# Altium footprint library National Semiconductor Footprints.PcbLib: 194 footprints (part 12 of 13)
Each footprint in its own frame and in the unit in brackets; x right, y up, seen from the top. Pads: shape width x height; smd on the part's side, far side on the other; paste and mask are expansions set on the pad; w line width, h text height; cw(c..) or ccw(c..) is an arc to the next point about the centre after c.
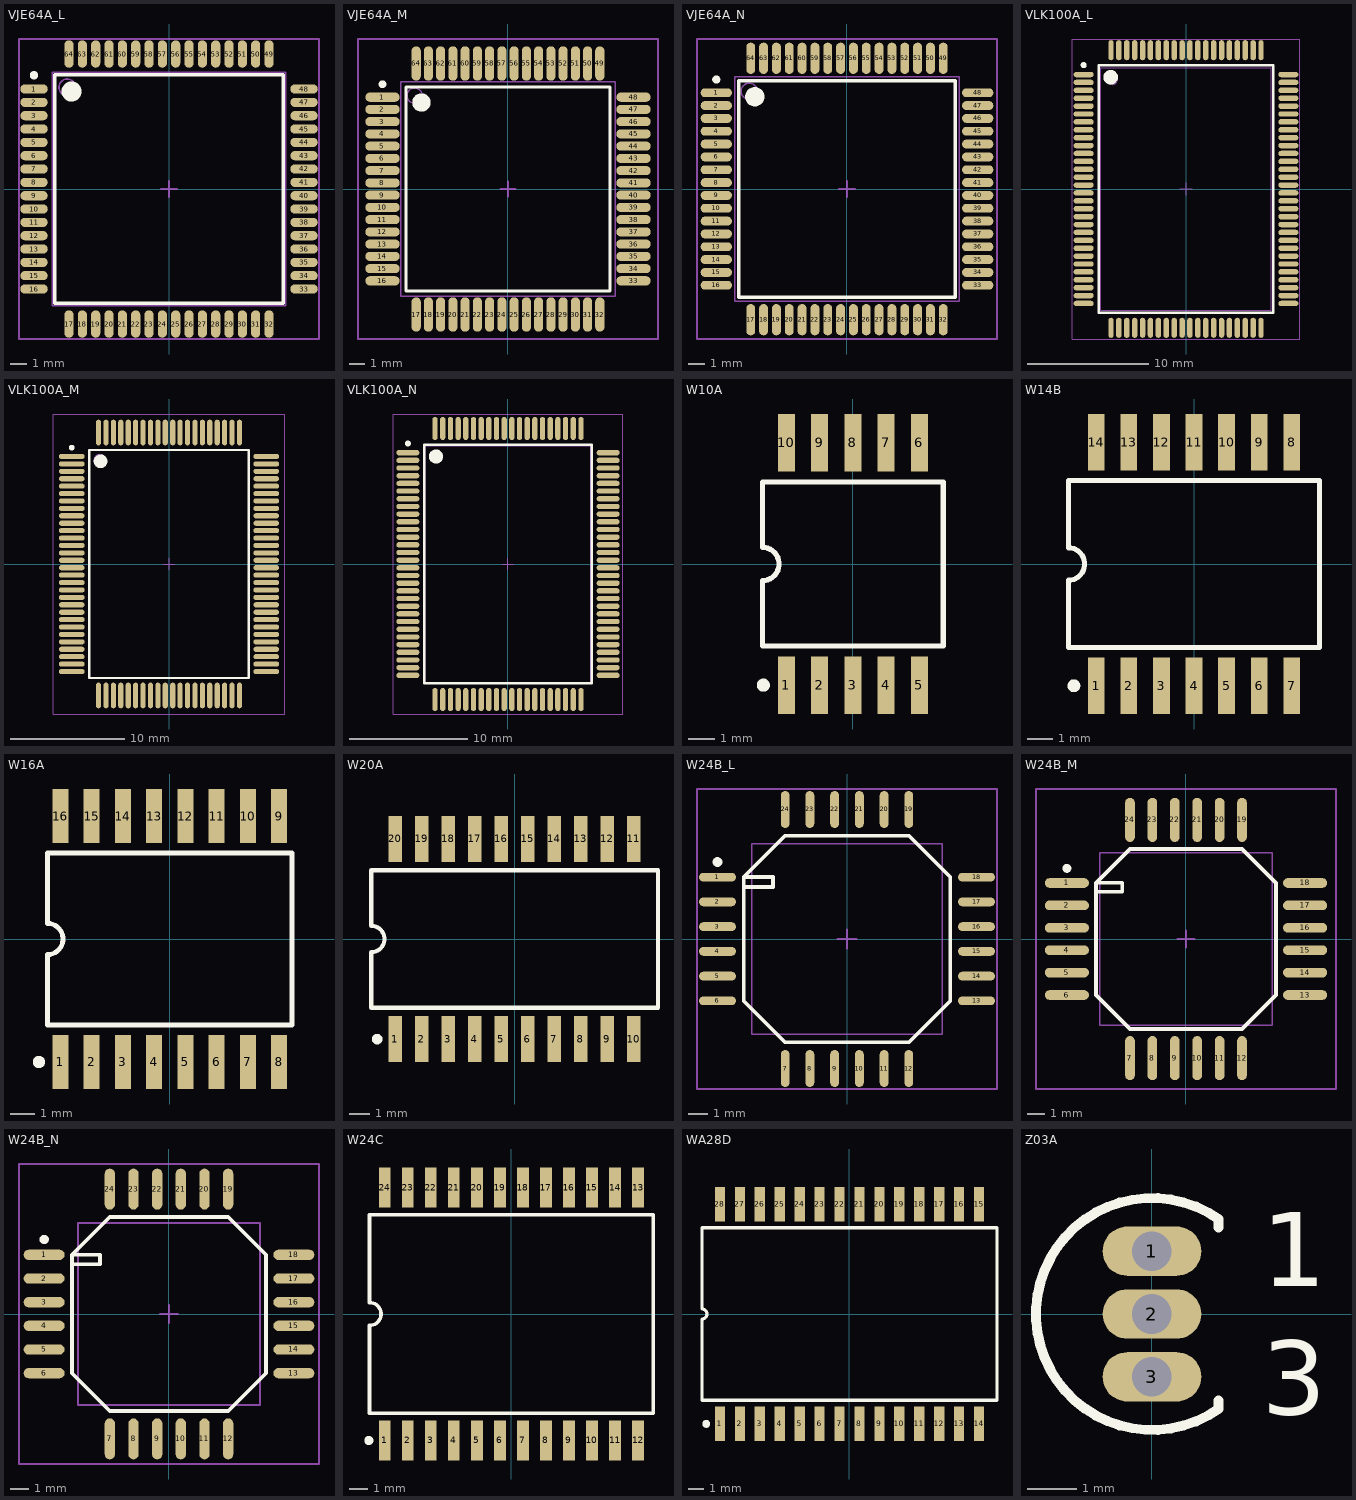
[diagram p11: the footprints below, top view; thin cyan lines are the x and y axes]

## VJE64A_L [mm] "64-Pin Quad Flat Pack 0.8 mm Pitch, IPC High Density"
height 2.45
pads (64):
  oval 1.65x0.55 smd: 1(-8.1,6) 2(-8.1,5.2) 3(-8.1,4.4) 4(-8.1,3.6) 5(-8.1,2.8) 6(-8.1,2) 7(-8.1,1.2) 8(-8.1,0.4) 9(-8.1,-0.4) 10(-8.1,-1.2) 11(-8.1,-2) 12(-8.1,-2.8) 13(-8.1,-3.6) 14(-8.1,-4.4) 15(-8.1,-5.2) 16(-8.1,-6) 33(8.1,-6) 34(8.1,-5.2) 35(8.1,-4.4) 36(8.1,-3.6) 37(8.1,-2.8) 38(8.1,-2) 39(8.1,-1.2) 40(8.1,-0.4) 41(8.1,0.4) 42(8.1,1.2) 43(8.1,2) 44(8.1,2.8) 45(8.1,3.6) 46(8.1,4.4) 47(8.1,5.2) 48(8.1,6)
  oval 0.55x1.65 smd: 17(-6,-8.1) 18(-5.2,-8.1) 19(-4.4,-8.1) 20(-3.6,-8.1) 21(-2.8,-8.1) 22(-2,-8.1) 23(-1.2,-8.1) 24(-0.4,-8.1) 25(0.4,-8.1) 26(1.2,-8.1) 27(2,-8.1) 28(2.8,-8.1) 29(3.6,-8.1) 30(4.4,-8.1) 31(5.2,-8.1) 32(6,-8.1) 49(6,8.1) 50(5.2,8.1) 51(4.4,8.1) 52(3.6,8.1) 53(2.8,8.1) 54(2,8.1) 55(1.2,8.1) 56(0.4,8.1) 57(-0.4,8.1) 58(-1.2,8.1) 59(-2,8.1) 60(-2.8,8.1) 61(-3.6,8.1) 62(-4.4,8.1) 63(-5.2,8.1) 64(-6,8.1)
Top Overlay:
  circle w0.6: c-5.85,5.85 r0.3
  circle w0.25: c-8.1,6.825 r0.125
  lines w0.2: -6.85,-6.85 6.85,-6.85 6.85,6.85 -6.85,6.85 -6.85,-6.85
Mechanical 13:
  circle w0.1: c-6.1,6.1 r0.5
  lines w0.1: -7,-7 7,-7 7,7 -7,7 -7,-7
Mechanical 15:
  lines w0.1: -0.5,0 0.5,0 ; 0,-0.5 0,0.5 ; -9,-9 9,-9 9,9 -9,9 -9,-9
3D body: height 2.45, standoff 0, extent -7,-7 7,7

## VJE64A_M [mm] "64-Pin Quad Flat Pack 0.8 mm Pitch, IPC Low Density"
height 2.45
pads (64):
  oval 2.25x0.6 smd: 1(-8.2,6) 2(-8.2,5.2) 3(-8.2,4.4) 4(-8.2,3.6) 5(-8.2,2.8) 6(-8.2,2) 7(-8.2,1.2) 8(-8.2,0.4) 9(-8.2,-0.4) 10(-8.2,-1.2) 11(-8.2,-2) 12(-8.2,-2.8) 13(-8.2,-3.6) 14(-8.2,-4.4) 15(-8.2,-5.2) 16(-8.2,-6) 33(8.2,-6) 34(8.2,-5.2) 35(8.2,-4.4) 36(8.2,-3.6) 37(8.2,-2.8) 38(8.2,-2) 39(8.2,-1.2) 40(8.2,-0.4) 41(8.2,0.4) 42(8.2,1.2) 43(8.2,2) 44(8.2,2.8) 45(8.2,3.6) 46(8.2,4.4) 47(8.2,5.2) 48(8.2,6)
  oval 0.6x2.25 smd: 17(-6,-8.2) 18(-5.2,-8.2) 19(-4.4,-8.2) 20(-3.6,-8.2) 21(-2.8,-8.2) 22(-2,-8.2) 23(-1.2,-8.2) 24(-0.4,-8.2) 25(0.4,-8.2) 26(1.2,-8.2) 27(2,-8.2) 28(2.8,-8.2) 29(3.6,-8.2) 30(4.4,-8.2) 31(5.2,-8.2) 32(6,-8.2) 49(6,8.2) 50(5.2,8.2) 51(4.4,8.2) 52(3.6,8.2) 53(2.8,8.2) 54(2,8.2) 55(1.2,8.2) 56(0.4,8.2) 57(-0.4,8.2) 58(-1.2,8.2) 59(-2,8.2) 60(-2.8,8.2) 61(-3.6,8.2) 62(-4.4,8.2) 63(-5.2,8.2) 64(-6,8.2)
Top Overlay:
  circle w0.6: c-5.65,5.65 r0.3
  circle w0.25: c-8.2,6.85 r0.125
  lines w0.2: -6.65,-6.65 6.65,-6.65 6.65,6.65 -6.65,6.65 -6.65,-6.65
Mechanical 13:
  circle w0.1: c-6.1,6.1 r0.5
  lines w0.1: -7,-7 7,-7 7,7 -7,7 -7,-7
Mechanical 15:
  lines w0.1: -0.5,0 0.5,0 ; 0,-0.5 0,0.5 ; -9.8,-9.8 9.8,-9.8 9.8,9.8 -9.8,9.8 -9.8,-9.8
3D body: height 2.45, standoff 0, extent -7,-7 7,7

## VJE64A_N [mm] "64-Pin Quad Flat Pack 0.8 mm Pitch, IPC Medium Density"
height 2.45
pads (64):
  oval 1.95x0.55 smd: 1(-8.15,6) 2(-8.15,5.2) 3(-8.15,4.4) 4(-8.15,3.6) 5(-8.15,2.8) 6(-8.15,2) 7(-8.15,1.2) 8(-8.15,0.4) 9(-8.15,-0.4) 10(-8.15,-1.2) 11(-8.15,-2) 12(-8.15,-2.8) 13(-8.15,-3.6) 14(-8.15,-4.4) 15(-8.15,-5.2) 16(-8.15,-6) 33(8.15,-6) 34(8.15,-5.2) 35(8.15,-4.4) 36(8.15,-3.6) 37(8.15,-2.8) 38(8.15,-2) 39(8.15,-1.2) 40(8.15,-0.4) 41(8.15,0.4) 42(8.15,1.2) 43(8.15,2) 44(8.15,2.8) 45(8.15,3.6) 46(8.15,4.4) 47(8.15,5.2) 48(8.15,6)
  oval 0.55x1.95 smd: 17(-6,-8.15) 18(-5.2,-8.15) 19(-4.4,-8.15) 20(-3.6,-8.15) 21(-2.8,-8.15) 22(-2,-8.15) 23(-1.2,-8.15) 24(-0.4,-8.15) 25(0.4,-8.15) 26(1.2,-8.15) 27(2,-8.15) 28(2.8,-8.15) 29(3.6,-8.15) 30(4.4,-8.15) 31(5.2,-8.15) 32(6,-8.15) 49(6,8.15) 50(5.2,8.15) 51(4.4,8.15) 52(3.6,8.15) 53(2.8,8.15) 54(2,8.15) 55(1.2,8.15) 56(0.4,8.15) 57(-0.4,8.15) 58(-1.2,8.15) 59(-2,8.15) 60(-2.8,8.15) 61(-3.6,8.15) 62(-4.4,8.15) 63(-5.2,8.15) 64(-6,8.15)
Top Overlay:
  circle w0.6: c-5.75,5.75 r0.3
  circle w0.25: c-8.15,6.825 r0.125
  lines w0.2: -6.75,-6.75 6.75,-6.75 6.75,6.75 -6.75,6.75 -6.75,-6.75
Mechanical 13:
  circle w0.1: c-6.1,6.1 r0.5
  lines w0.1: -7,-7 7,-7 7,7 -7,7 -7,-7
Mechanical 15:
  lines w0.1: -0.5,0 0.5,0 ; 0,-0.5 0,0.5 ; -9.35,-9.35 9.35,-9.35 9.35,9.35 -9.35,9.35 -9.35,-9.35
3D body: height 2.45, standoff 0, extent -7,-7 7,7

## VLK100A_L [mm] "100-Pin Quad Flat Pack Rectangular 0.65 mm Pitch, IPC High Density"
height 3
pads (100):
  oval 1.65x0.45 smd: 1(-8.425,9.425) 2(-8.425,8.775) 3(-8.425,8.125) 4(-8.425,7.475) 5(-8.425,6.825) 6(-8.425,6.175) 7(-8.425,5.525) 8(-8.425,4.875) 9(-8.425,4.225) 10(-8.425,3.575) 11(-8.425,2.925) 12(-8.425,2.275) 13(-8.425,1.625) 14(-8.425,0.975) 15(-8.425,0.325) 16(-8.425,-0.325) 17(-8.425,-0.975) 18(-8.425,-1.625) 19(-8.425,-2.275) 20(-8.425,-2.925) 21(-8.425,-3.575) 22(-8.425,-4.225) 23(-8.425,-4.875) 24(-8.425,-5.525) 25(-8.425,-6.175) 26(-8.425,-6.825) 27(-8.425,-7.475) 28(-8.425,-8.125) 29(-8.425,-8.775) 30(-8.425,-9.425) 51(8.425,-9.425) 52(8.425,-8.775) 53(8.425,-8.125) 54(8.425,-7.475) 55(8.425,-6.825) 56(8.425,-6.175) 57(8.425,-5.525) 58(8.425,-4.875) 59(8.425,-4.225) 60(8.425,-3.575) 61(8.425,-2.925) 62(8.425,-2.275) 63(8.425,-1.625) 64(8.425,-0.975) 65(8.425,-0.325) 66(8.425,0.325) 67(8.425,0.975) 68(8.425,1.625) 69(8.425,2.275) 70(8.425,2.925) 71(8.425,3.575) 72(8.425,4.225) 73(8.425,4.875) 74(8.425,5.525) 75(8.425,6.175) 76(8.425,6.825) 77(8.425,7.475) 78(8.425,8.125) 79(8.425,8.775) 80(8.425,9.425)
  oval 0.45x1.65 smd: 31(-6.175,-11.425) 32(-5.525,-11.425) 33(-4.875,-11.425) 34(-4.225,-11.425) 35(-3.575,-11.425) 36(-2.925,-11.425) 37(-2.275,-11.425) 38(-1.625,-11.425) 39(-0.975,-11.425) 40(-0.325,-11.425) 41(0.325,-11.425) 42(0.975,-11.425) 43(1.625,-11.425) 44(2.275,-11.425) 45(2.925,-11.425) 46(3.575,-11.425) 47(4.225,-11.425) 48(4.875,-11.425) 49(5.525,-11.425) 50(6.175,-11.425) 81(6.175,11.425) 82(5.525,11.425) 83(4.875,11.425) 84(4.225,11.425) 85(3.575,11.425) 86(2.925,11.425) 87(2.275,11.425) 88(1.625,11.425) 89(0.975,11.425) 90(0.325,11.425) 91(-0.325,11.425) 92(-0.975,11.425) 93(-1.625,11.425) 94(-2.275,11.425) 95(-2.925,11.425) 96(-3.575,11.425) 97(-4.225,11.425) 98(-4.875,11.425) 99(-5.525,11.425) 100(-6.175,11.425)
Top Overlay:
  circle w0.6: c-6.2,9.2 r0.3
  circle w0.25: c-8.425,10.2 r0.125
  lines w0.2: -7.2,-10.2 7.2,-10.2 7.2,10.2 -7.2,10.2 -7.2,-10.2
Mechanical 13:
  circle w0.1: c-6.1,9.1 r0.5
  lines w0.1: -7,-10 7,-10 7,10 -7,10 -7,-10
Mechanical 15:
  lines w0.1: -0.5,0 0.5,0 ; 0,-0.5 0,0.5 ; -9.35,-12.35 9.35,-12.35 9.35,12.35 -9.35,12.35 -9.35,-12.35
3D body: height 3, standoff 0, extent -7,-10 7,10

## VLK100A_M [mm] "100-Pin Quad Flat Pack Rectangular 0.65 mm Pitch, IPC Low Density"
height 3
pads (100):
  oval 2.25x0.45 smd: 1(-8.525,9.425) 2(-8.525,8.775) 3(-8.525,8.125) 4(-8.525,7.475) 5(-8.525,6.825) 6(-8.525,6.175) 7(-8.525,5.525) 8(-8.525,4.875) 9(-8.525,4.225) 10(-8.525,3.575) 11(-8.525,2.925) 12(-8.525,2.275) 13(-8.525,1.625) 14(-8.525,0.975) 15(-8.525,0.325) 16(-8.525,-0.325) 17(-8.525,-0.975) 18(-8.525,-1.625) 19(-8.525,-2.275) 20(-8.525,-2.925) 21(-8.525,-3.575) 22(-8.525,-4.225) 23(-8.525,-4.875) 24(-8.525,-5.525) 25(-8.525,-6.175) 26(-8.525,-6.825) 27(-8.525,-7.475) 28(-8.525,-8.125) 29(-8.525,-8.775) 30(-8.525,-9.425) 51(8.525,-9.425) 52(8.525,-8.775) 53(8.525,-8.125) 54(8.525,-7.475) 55(8.525,-6.825) 56(8.525,-6.175) 57(8.525,-5.525) 58(8.525,-4.875) 59(8.525,-4.225) 60(8.525,-3.575) 61(8.525,-2.925) 62(8.525,-2.275) 63(8.525,-1.625) 64(8.525,-0.975) 65(8.525,-0.325) 66(8.525,0.325) 67(8.525,0.975) 68(8.525,1.625) 69(8.525,2.275) 70(8.525,2.925) 71(8.525,3.575) 72(8.525,4.225) 73(8.525,4.875) 74(8.525,5.525) 75(8.525,6.175) 76(8.525,6.825) 77(8.525,7.475) 78(8.525,8.125) 79(8.525,8.775) 80(8.525,9.425)
  oval 0.45x2.25 smd: 31(-6.175,-11.525) 32(-5.525,-11.525) 33(-4.875,-11.525) 34(-4.225,-11.525) 35(-3.575,-11.525) 36(-2.925,-11.525) 37(-2.275,-11.525) 38(-1.625,-11.525) 39(-0.975,-11.525) 40(-0.325,-11.525) 41(0.325,-11.525) 42(0.975,-11.525) 43(1.625,-11.525) 44(2.275,-11.525) 45(2.925,-11.525) 46(3.575,-11.525) 47(4.225,-11.525) 48(4.875,-11.525) 49(5.525,-11.525) 50(6.175,-11.525) 81(6.175,11.525) 82(5.525,11.525) 83(4.875,11.525) 84(4.225,11.525) 85(3.575,11.525) 86(2.925,11.525) 87(2.275,11.525) 88(1.625,11.525) 89(0.975,11.525) 90(0.325,11.525) 91(-0.325,11.525) 92(-0.975,11.525) 93(-1.625,11.525) 94(-2.275,11.525) 95(-2.925,11.525) 96(-3.575,11.525) 97(-4.225,11.525) 98(-4.875,11.525) 99(-5.525,11.525) 100(-6.175,11.525)
Top Overlay:
  circle w0.25: c-8.525,10.2 r0.125
  circle w0.6: c-6,9 r0.3
  lines w0.2: -7,-10 -7,10 7,10 7,-10 -7,-10
Mechanical 13:
  circle w0.1: c-6.1,9.1 r0.5
  lines w0.1: -7,-10 -7,10 7,10 7,-10 -7,-10
Mechanical 15:
  lines w0.1: -0.5,0 0.5,0 ; 0,-0.5 0,0.5 ; -10.15,-13.15 -10.15,13.15 10.15,13.15 10.15,-13.15 -10.15,-13.15
3D body: height 3, standoff 0, extent -7,-10 7,10

## VLK100A_N [mm] "100-Pin Quad Flat Pack Rectangular 0.65 mm Pitch, IPC Medium Density"
height 3
pads (100):
  oval 1.95x0.45 smd: 1(-8.475,9.425) 2(-8.475,8.775) 3(-8.475,8.125) 4(-8.475,7.475) 5(-8.475,6.825) 6(-8.475,6.175) 7(-8.475,5.525) 8(-8.475,4.875) 9(-8.475,4.225) 10(-8.475,3.575) 11(-8.475,2.925) 12(-8.475,2.275) 13(-8.475,1.625) 14(-8.475,0.975) 15(-8.475,0.325) 16(-8.475,-0.325) 17(-8.475,-0.975) 18(-8.475,-1.625) 19(-8.475,-2.275) 20(-8.475,-2.925) 21(-8.475,-3.575) 22(-8.475,-4.225) 23(-8.475,-4.875) 24(-8.475,-5.525) 25(-8.475,-6.175) 26(-8.475,-6.825) 27(-8.475,-7.475) 28(-8.475,-8.125) 29(-8.475,-8.775) 30(-8.475,-9.425) 51(8.475,-9.425) 52(8.475,-8.775) 53(8.475,-8.125) 54(8.475,-7.475) 55(8.475,-6.825) 56(8.475,-6.175) 57(8.475,-5.525) 58(8.475,-4.875) 59(8.475,-4.225) 60(8.475,-3.575) 61(8.475,-2.925) 62(8.475,-2.275) 63(8.475,-1.625) 64(8.475,-0.975) 65(8.475,-0.325) 66(8.475,0.325) 67(8.475,0.975) 68(8.475,1.625) 69(8.475,2.275) 70(8.475,2.925) 71(8.475,3.575) 72(8.475,4.225) 73(8.475,4.875) 74(8.475,5.525) 75(8.475,6.175) 76(8.475,6.825) 77(8.475,7.475) 78(8.475,8.125) 79(8.475,8.775) 80(8.475,9.425)
  oval 0.45x1.95 smd: 31(-6.175,-11.475) 32(-5.525,-11.475) 33(-4.875,-11.475) 34(-4.225,-11.475) 35(-3.575,-11.475) 36(-2.925,-11.475) 37(-2.275,-11.475) 38(-1.625,-11.475) 39(-0.975,-11.475) 40(-0.325,-11.475) 41(0.325,-11.475) 42(0.975,-11.475) 43(1.625,-11.475) 44(2.275,-11.475) 45(2.925,-11.475) 46(3.575,-11.475) 47(4.225,-11.475) 48(4.875,-11.475) 49(5.525,-11.475) 50(6.175,-11.475) 81(6.175,11.475) 82(5.525,11.475) 83(4.875,11.475) 84(4.225,11.475) 85(3.575,11.475) 86(2.925,11.475) 87(2.275,11.475) 88(1.625,11.475) 89(0.975,11.475) 90(0.325,11.475) 91(-0.325,11.475) 92(-0.975,11.475) 93(-1.625,11.475) 94(-2.275,11.475) 95(-2.925,11.475) 96(-3.575,11.475) 97(-4.225,11.475) 98(-4.875,11.475) 99(-5.525,11.475) 100(-6.175,11.475)
Top Overlay:
  circle w0.25: c-8.475,10.2 r0.125
  circle w0.6: c-6.1,9.1 r0.3
  lines w0.2: -7.1,-10.1 -7.1,10.1 7.1,10.1 7.1,-10.1 -7.1,-10.1
Mechanical 13:
  circle w0.1: c-6.1,9.1 r0.5
  lines w0.1: -7,-10 -7,10 7,10 7,-10 -7,-10
Mechanical 15:
  lines w0.1: -0.5,0 0.5,0 ; 0,-0.5 0,0.5 ; -9.7,-12.7 -9.7,12.7 9.7,12.7 9.7,-12.7 -9.7,-12.7
3D body: height 3, standoff 0, extent -7,-10 7,10

## W10A [mm] "DFP; 10 Leads; Body 6.9 x 6.9 mm (LxW max); Pitch 1.27 mm"
height 2.04
pads (10):
  rect 0.65x2.2 smd: 1(-2.54,-4.625) 2(-1.27,-4.625) 3(0,-4.625) 4(1.27,-4.625) 5(2.54,-4.625) 6(2.54,4.625) 7(1.27,4.625) 8(0,4.625) 9(-1.27,4.625) 10(-2.54,4.625)
Top Overlay:
  circle w0.25: c-3.415,-4.625 r0.125
  lines w0.2: -3.45,-3.125 -3.45,-0.635 ccw(c-3.45,0) -3.45,0.635 -3.45,3.125 3.45,3.125 3.45,-3.125 -3.45,-3.125

## W14B [mm] "DFP; 14 Leads; Body 9.8 x 7.1 mm (LxW max); Pitch 1.27 mm"
height 2.04
pads (14):
  rect 0.65x2.2 smd: 1(-3.81,-4.75) 2(-2.54,-4.75) 3(-1.27,-4.75) 4(0,-4.75) 5(1.27,-4.75) 6(2.54,-4.75) 7(3.81,-4.75) 8(3.81,4.75) 9(2.54,4.75) 10(1.27,4.75) 11(0,4.75) 12(-1.27,4.75) 13(-2.54,4.75) 14(-3.81,4.75)
Top Overlay:
  circle w0.25: c-4.685,-4.75 r0.125
  lines w0.2: -4.9,-3.25 4.9,-3.25 4.9,3.25 -4.9,3.25 -4.9,0.635 cw(c-4.9,0) -4.9,-0.635 -4.9,-3.25

## W16A [mm] "DFP; 16 Leads; Body 9.9 x 7.6 mm (LxW max); Pitch 1.27 mm"
height 2.04
pads (16):
  rect 0.65x2.2 smd: 1(-4.445,-5) 2(-3.175,-5) 3(-1.905,-5) 4(-0.635,-5) 5(0.635,-5) 6(1.905,-5) 7(3.175,-5) 8(4.445,-5) 9(4.445,5) 10(3.175,5) 11(1.905,5) 12(0.635,5) 13(-0.635,5) 14(-1.905,5) 15(-3.175,5) 16(-4.445,5)
Top Overlay:
  circle w0.25: c-5.32,-5 r0.125
  lines w0.2: -4.975,-3.5 -4.975,-0.635 ccw(c-4.975,0) -4.975,0.635 -4.975,3.5 4.975,3.5 4.975,-3.5 -4.975,-3.5

## W20A [mm] "DFP; 20 Leads; Body 13.7 x 7.2 mm (LxW max); Pitch 1.27 mm"
height 2.29
pads (20):
  rect 0.65x2.2 smd: 1(-5.715,-4.8) 2(-4.445,-4.8) 3(-3.175,-4.8) 4(-1.905,-4.8) 5(-0.635,-4.8) 6(0.635,-4.8) 7(1.905,-4.8) 8(3.175,-4.8) 9(4.445,-4.8) 10(5.715,-4.8) 11(5.715,4.8) 12(4.445,4.8) 13(3.175,4.8) 14(1.905,4.8) 15(0.635,4.8) 16(-0.635,4.8) 17(-1.905,4.8) 18(-3.175,4.8) 19(-4.445,4.8) 20(-5.715,4.8)
Top Overlay:
  circle w0.25: c-6.59,-4.8 r0.125
  lines w0.2: -6.875,-3.3 6.875,-3.3 6.875,3.3 -6.875,3.3 -6.875,0.635 cw(c-6.875,0) -6.875,-0.635 -6.875,-3.3

## W24B_L [mm] "100-Pin Ceramic Quad Flat Pack 1.27 mm Pitch, IPC High Density"
height 2.2
pads (24):
  oval 1.9x0.45 smd: 1(-6.65,3.175) 2(-6.65,1.905) 3(-6.65,0.635) 4(-6.65,-0.635) 5(-6.65,-1.905) 6(-6.65,-3.175) 13(6.65,-3.175) 14(6.65,-1.905) 15(6.65,-0.635) 16(6.65,0.635) 17(6.65,1.905) 18(6.65,3.175)
  oval 0.45x1.9 smd: 7(-3.175,-6.65) 8(-1.905,-6.65) 9(-0.635,-6.65) 10(0.635,-6.65) 11(1.905,-6.65) 12(3.175,-6.65) 19(3.175,6.65) 20(1.905,6.65) 21(0.635,6.65) 22(-0.635,6.65) 23(-1.905,6.65) 24(-3.175,6.65)
Top Overlay:
  circle w0.25: c-6.65,3.95 r0.125
  lines w0.2: -5.3,2.675 -3.8,2.675 -3.8,3.175 -5.3,3.175 ; -5.3,3.175 -5.3,-3.175 -3.175,-5.3 3.175,-5.3 5.3,-3.175 5.3,3.175 3.175,5.3 -3.175,5.3 -5.3,3.175
Mechanical 13:
  lines w0.1: -4.89,-4.89 -4.89,4.89 4.89,4.89 4.89,-4.89 -4.89,-4.89
Mechanical 15:
  lines w0.1: -0.5,0 0.5,0 ; 0,-0.5 0,0.5 ; -7.7,-7.7 -7.7,7.7 7.7,7.7 7.7,-7.7 -7.7,-7.7
3D body: height 2.2, standoff 0, extent -4.89,-4.89 4.89,4.89

## W24B_M [mm] "100-Pin Ceramic Quad Flat Pack 1.27 mm Pitch, IPC Low Density"
height 2.2
pads (24):
  oval 2.5x0.55 smd: 1(-6.75,3.175) 2(-6.75,1.905) 3(-6.75,0.635) 4(-6.75,-0.635) 5(-6.75,-1.905) 6(-6.75,-3.175) 13(6.75,-3.175) 14(6.75,-1.905) 15(6.75,-0.635) 16(6.75,0.635) 17(6.75,1.905) 18(6.75,3.175)
  oval 0.55x2.5 smd: 7(-3.175,-6.75) 8(-1.905,-6.75) 9(-0.635,-6.75) 10(0.635,-6.75) 11(1.905,-6.75) 12(3.175,-6.75) 19(3.175,6.75) 20(1.905,6.75) 21(0.635,6.75) 22(-0.635,6.75) 23(-1.905,6.75) 24(-3.175,6.75)
Top Overlay:
  circle w0.25: c-6.75,4 r0.125
  lines w0.2: -5.1,2.675 -3.6,2.675 -3.6,3.175 -5.1,3.175 ; -5.1,3.175 -3.175,5.1 3.175,5.1 5.1,3.175 5.1,-3.175 3.175,-5.1 -3.175,-5.1 -5.1,-3.175 -5.1,3.175
Mechanical 13:
  lines w0.1: -4.89,-4.89 4.89,-4.89 4.89,4.89 -4.89,4.89 -4.89,-4.89
Mechanical 15:
  lines w0.1: -0.5,0 0.5,0 ; 0,-0.5 0,0.5 ; -8.5,-8.5 8.5,-8.5 8.5,8.5 -8.5,8.5 -8.5,-8.5
3D body: height 2.2, standoff 0, extent -4.89,-4.89 4.89,4.89

## W24B_N [mm] "100-Pin Ceramic Quad Flat Pack 1.27 mm Pitch, IPC Medium Density"
height 2.2
pads (24):
  oval 2.2x0.55 smd: 1(-6.7,3.175) 2(-6.7,1.905) 3(-6.7,0.635) 4(-6.7,-0.635) 5(-6.7,-1.905) 6(-6.7,-3.175) 13(6.7,-3.175) 14(6.7,-1.905) 15(6.7,-0.635) 16(6.7,0.635) 17(6.7,1.905) 18(6.7,3.175)
  oval 0.55x2.2 smd: 7(-3.175,-6.7) 8(-1.905,-6.7) 9(-0.635,-6.7) 10(0.635,-6.7) 11(1.905,-6.7) 12(3.175,-6.7) 19(3.175,6.7) 20(1.905,6.7) 21(0.635,6.7) 22(-0.635,6.7) 23(-1.905,6.7) 24(-3.175,6.7)
Top Overlay:
  circle w0.25: c-6.7,4 r0.125
  lines w0.2: -5.2,2.675 -3.7,2.675 -3.7,3.175 -5.2,3.175 ; -5.2,3.175 -5.2,-3.175 -3.175,-5.2 3.175,-5.2 5.2,-3.175 5.2,3.175 3.175,5.2 -3.175,5.2 -5.2,3.175
Mechanical 13:
  lines w0.1: -4.89,-4.89 -4.89,4.89 4.89,4.89 4.89,-4.89 -4.89,-4.89
Mechanical 15:
  lines w0.1: -0.5,0 0.5,0 ; 0,-0.5 0,0.5 ; -8.05,-8.05 -8.05,8.05 8.05,8.05 8.05,-8.05 -8.05,-8.05
3D body: height 2.2, standoff 0, extent -4.89,-4.89 4.89,4.89

## W24C [mm] "DFP; 24 Leads; Body 15.6 x 10.7 mm (LxW max); Pitch 1.27 mm"
height 2.54
pads (24):
  rect 0.65x2.2 smd: 1(-6.985,-6.975) 2(-5.715,-6.975) 3(-4.445,-6.975) 4(-3.175,-6.975) 5(-1.905,-6.975) 6(-0.635,-6.975) 7(0.635,-6.975) 8(1.905,-6.975) 9(3.175,-6.975) 10(4.445,-6.975) 11(5.715,-6.975) 12(6.985,-6.975) 13(6.985,6.975) 14(5.715,6.975) 15(4.445,6.975) 16(3.175,6.975) 17(1.905,6.975) 18(0.635,6.975) 19(-0.635,6.975) 20(-1.905,6.975) 21(-3.175,6.975) 22(-4.445,6.975) 23(-5.715,6.975) 24(-6.985,6.975)
Top Overlay:
  circle w0.25: c-7.86,-6.975 r0.125
  lines w0.2: -7.825,-5.475 7.825,-5.475 7.825,5.475 -7.825,5.475 -7.825,0.635 cw(c-7.825,0) -7.825,-0.635 -7.825,-5.475

## WA28D [mm] "DFP; 28 Leads; Body 18.8 x 10.2 mm (LxW max); Pitch 1.27 mm"
height 2.29
pads (28):
  rect 0.65x2.2 smd: 1(-8.255,-7) 2(-6.985,-7) 3(-5.715,-7) 4(-4.445,-7) 5(-3.175,-7) 6(-1.905,-7) 7(-0.635,-7) 8(0.635,-7) 9(1.905,-7) 10(3.175,-7) 11(4.445,-7) 12(5.715,-7) 13(6.985,-7) 14(8.255,-7) 15(8.255,7) 16(6.985,7) 17(5.715,7) 18(4.445,7) 19(3.175,7) 20(1.905,7) 21(0.635,7) 22(-0.635,7) 23(-1.905,7) 24(-3.175,7) 25(-4.445,7) 26(-5.715,7) 27(-6.985,7) 28(-8.255,7)
Top Overlay:
  circle w0.25: c-9.13,-6.999 r0.125
  lines w0.2: -9.4,-5.5 -9.4,-0.318 ccw(c-9.4,0) -9.4,0.318 -9.4,5.5 9.4,5.5 9.4,-5.5 -9.4,-5.5

## Z03A [mm] "TO, Flat Index; 3 In-Line, Axial Leads; Body Dia. 4.6mm; Leads 0.53 x 0.39 mm (max)"
pads (3):
  oval 2x1 hole 0.8: 1(0,1.27) 2(0,0) 3(0,-1.27)
Top Overlay:
  lines w0.2: 1.35,-1.75 1.35,-1.92 cw(c0,0) 1.35,1.92 1.35,1.75
  text "3" at 2.224,-2.035 h1.5
  text "1" at 2.224,0.56 h1.5